# EAGLE library part KRE-10P (library kre)
KRE Conector 10P
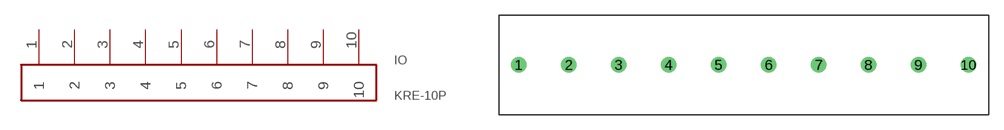
[diagram p1: symbol with the pads of KRE-10P; footprint KRE-10P]

Designator prefix IO

## KRE-10P  [KRE-10P]
1  1
2  2
3  3
4  4
5  5
6  6
7  7
8  8
9  9
10  10

## Footprint KRE-10P (pad centres in mm)
drill 1: 1 -20.32,0; 2 -15.32,0; 3 -10.32,0; 4 -5.32,0; 5 -0.32,0; 6 4.68,0; 7 9.68,0; 8 14.68,0; 9 19.68,0; 10 24.68,0